# EAGLE library part LPR9201 (library custom-connectors)
DF12B-20 POS to connect with the module LPR9201
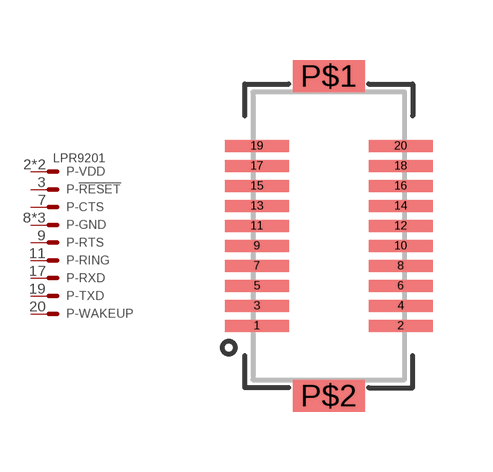
[diagram p13: symbol with the pads of DF12B_20DP; footprint DF12B_20DP]

Designator prefix P; gates -VDD=MV -!RESET=M -CTS=M -GND=M -RTS=M -RING=M -RXD=M -TXD=M -WAKEUP=M

## LPR9201  [DF12B_20DP]
2  -VDD:S  pas
3  -!RESET:S  pas
4  -VDD:S  pas
7  -CTS:S  pas
8  -GND:S  pas
9  -RTS:S  pas
11  -RING:S  pas
12  -GND:S  pas
15  -GND:S  pas
17  -RXD:S  pas
19  -TXD:S  pas
20  -WAKEUP:S  pas

## Footprint DF12B_20DP (pad centres in mm)
smd 1.6 x 0.3: 1 -1.8,-2.25; 2 1.8,-2.25; 3 -1.8,-1.75; 4 1.8,-1.75; 5 -1.8,-1.25; 6 1.8,-1.25; 7 -1.8,-0.75; 8 1.8,-0.75; 9 -1.8,-0.25; 10 1.8,-0.25; 11 -1.8,0.25; 12 1.8,0.25; 13 -1.8,0.75; 14 1.8,0.75; 15 -1.8,1.25; 16 1.8,1.25; 17 -1.8,1.75; 18 1.8,1.75; 19 -1.8,2.25; 20 1.8,2.25
smd 1.8 x 0.8: P$1 0,4; P$2 0,-4